# Altium footprint library P-Channel FET.PcbLib: 8 footprints
Each footprint in its own frame and in the unit in brackets; x right, y up, seen from the top. Pads: shape width x height; smd on the part's side, far side on the other; paste and mask are expansions set on the pad; w line width, h text height; cw(c..) or ccw(c..) is an arc to the next point about the centre after c.
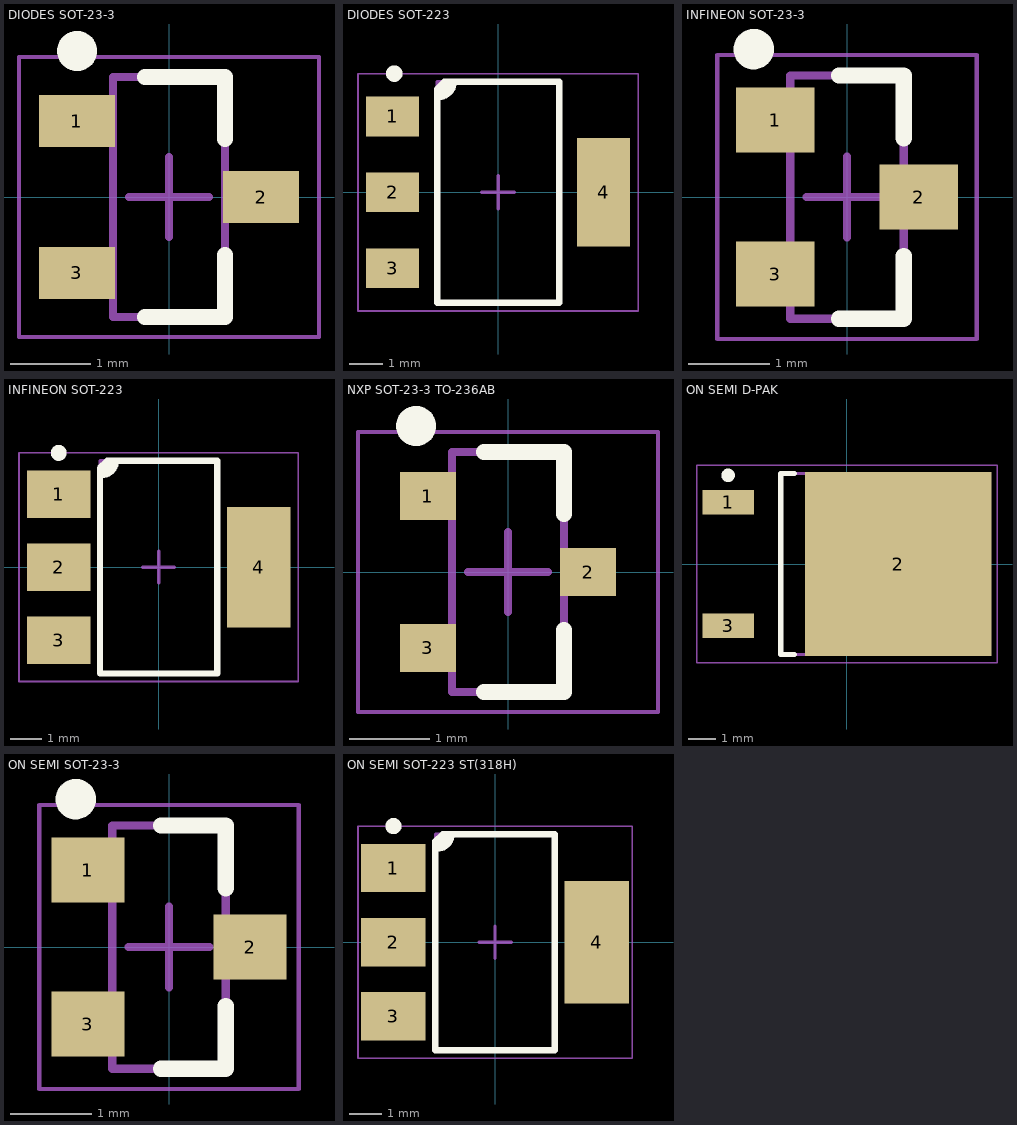
[diagram p0: the footprints below, top view; thin cyan lines are the x and y axes]

## DIODES SOT-23-3 [mm] "SOT23, 3-Leads, Body 2.90x2.40mm, Pitch 0.95mm, IPC Medium Density"
height 1.35
pads (3):
  rect 0.95x0.65 smd: 1(-1.15,0.95) 2(1.15,0) 3(-1.15,-0.95)
Top Overlay:
  circle w0.25: c-1.15,1.825 r0.125
  lines w0.2: -0.3,-1.5 0.7,-1.5 0.7,-0.725 ; -0.3,1.5 0.7,1.5 0.7,0.725
Mechanical 13:
  lines w0.1: -0.7,-1.5 -0.7,1.5 0.7,1.5 0.7,-1.5 -0.7,-1.5
Mechanical 15:
  lines w0.05: -1.875,-1.75 -1.875,1.75 1.875,1.75 1.875,-1.75 -1.875,-1.75
  lines w0.1: -0.5,0 0.5,0 ; 0,-0.5 0,0.5
3D body "sot-23-3.STEP": height 1.5, standoff 0, extent -1.41,-1.45 1.411,1.45

## DIODES SOT-223 [mm] "SOT223, 4-Leads, Body 6.50x7.00mm (avg), Pitch 2.30mm, IPC Medium Density"
height 1.8
pads (4):
  rect 1.6x1.2 smd: 1(-3.2,2.3) 2(-3.2,0) 3(-3.2,-2.3)
  rect 1.6x3.3 smd: 4(3.2,0)
Top Overlay:
  circle w0.25: c-3.15,3.6 r0.125
  region: -1.65,3.275 -1.35,3.35 -1.35,3.2 -1.65,2.9 -1.85,2.9
  lines w0.2: -1.85,2.9 -1.8,2.9 ccw(c-1.8,3.35) -1.35,3.35 ; -1.85,-3.35 1.85,-3.35 1.85,3.35 -1.625,3.35 -1.85,3.125 -1.85,-3.35
Mechanical 13:
  lines w0.1: -1.85,-3.35 -1.85,3.35 1.85,3.35 1.85,-3.35 -1.85,-3.35
Mechanical 15:
  lines w0.05: -4.25,-3.6 -4.25,3.6 4.25,3.6 4.25,-3.6 -4.25,-3.6
  lines w0.1: -0.5,0 0.5,0 ; 0,-0.5 0,0.5
3D body "SOT-223.STEP": height 1.8, standoff 0, extent -3.516,-3.25 3.5,3.25

## INFINEON SOT-23-3 [mm] "SOT23, 3-Leads, Body 2.90x2.40mm, Pitch 0.95mm, IPC Medium Density"
height 1.35
pads (3):
  rect 0.972x0.802 smd: 1(-0.885,0.95) 2(0.885,0) 3(-0.885,-0.95)
Top Overlay:
  circle w0.25: c-1.15,1.825 r0.125
  lines w0.2: -0.1,-1.5 0.7,-1.5 0.7,-0.725 ; -0.1,1.5 0.7,1.5 0.7,0.725
Mechanical 13:
  lines w0.1: -0.7,-1.5 0.7,-1.5 0.7,1.5 -0.7,1.5 -0.7,-1.5
Mechanical 15:
  lines w0.05: -1.6,-1.75 1.6,-1.75 1.6,1.75 -1.6,1.75 -1.6,-1.75
  lines w0.1: -0.5,0 0.5,0 ; 0,-0.5 0,0.5
3D body "sot-23-3-infineon.STEP": height 1, standoff 0, extent -1.16,-1.45 1.16,1.45

## INFINEON SOT-223 [mm] "SOT223, 4-Leads, Body 6.50x7.00mm (avg), Pitch 2.30mm, IPC Medium Density"
height 1.8
pads (4):
  rect 2x1.5 smd: 1(-3.15,2.3) 2(-3.15,0) 3(-3.15,-2.3)
  rect 2x3.8 smd: 4(3.15,0)
Top Overlay:
  circle w0.25: c-3.15,3.6 r0.125
  region: -1.65,3.275 -1.35,3.35 -1.35,3.2 -1.65,2.9 -1.85,2.9
  lines w0.2: -1.85,2.9 -1.8,2.9 ccw(c-1.8,3.35) -1.35,3.35 ; -1.85,-3.35 1.85,-3.35 1.85,3.35 -1.625,3.35 -1.85,3.125 -1.85,-3.35
Mechanical 13:
  lines w0.1: -1.85,-3.35 -1.85,3.35 1.85,3.35 1.85,-3.35 -1.85,-3.35
Mechanical 15:
  lines w0.05: -4.4,-3.6 -4.4,3.6 4.4,3.6 4.4,-3.6 -4.4,-3.6
  lines w0.1: -0.5,0 0.5,0 ; 0,-0.5 0,0.5
3D body "SOT-223.STEP": height 1.8, standoff 0, extent -3.516,-3.25 3.5,3.25

## NXP SOT-23-3 TO-236AB [mm] "SOT23, 3-Leads, Body 2.90x2.40mm, Pitch 0.95mm, IPC Medium Density"
height 1.35
pads (3):
  rect 0.7x0.6 smd: 1(-1,0.95) 2(1,0) 3(-1,-0.95)
Top Overlay:
  circle w0.25: c-1.15,1.825 r0.125
  lines w0.2: -0.3,-1.5 0.7,-1.5 0.7,-0.725 ; -0.3,1.5 0.7,1.5 0.7,0.725
Mechanical 13:
  lines w0.1: -0.7,-1.5 -0.7,1.5 0.7,1.5 0.7,-1.5 -0.7,-1.5
Mechanical 15:
  lines w0.05: -1.875,-1.75 -1.875,1.75 1.875,1.75 1.875,-1.75 -1.875,-1.75
  lines w0.1: -0.5,0 0.5,0 ; 0,-0.5 0,0.5
3D body "sot-23-3-nxp.STEP": height 1.5, standoff 0, extent -1.16,-1.45 1.16,1.45

## ON SEMI D-PAK [mm] "D-PAK, 3-Pads, Body 6.20x6.72mm (max), IPC Medium Density"
height 2.38
pads (3):
  rect 1.9x0.9 smd: 1(-4.4,2.28) 3(-4.4,-2.28)
  rect 6.9x6.8 smd: 2(1.9,0)
Top Overlay:
  circle w0.25: c-4.4,3.28 r0.125
  lines w0.2: -1.95,-3.35 -2.45,-3.35 -2.45,3.35 -1.95,3.35
Mechanical 13:
  lines w0.1: -2.45,-3.35 -2.45,3.35 3.75,3.35 3.75,-3.35 -2.45,-3.35
Mechanical 15:
  lines w0.05: -5.55,-3.65 -5.55,3.65 5.55,3.65 5.55,-3.65 -5.55,-3.65
  lines w0.1: -0.5,0 0.5,0 ; 0,-0.5 0,0.5
3D body "ON SEMI D-PAK.step": height 2.38, standoff 0, extent -4.465,-3.35 5.235,3.35

## ON SEMI SOT-23-3 [mm] "SOT23, 3-Leads, Body 2.90x2.40mm, Pitch 0.95mm, IPC Medium Density"
height 1.35
pads (3):
  rect 0.9x0.8 smd: 1(-1,0.95) 2(1,0) 3(-1,-0.95)
Top Overlay:
  circle w0.25: c-1.15,1.825 r0.125
  lines w0.2: -0.1,-1.5 0.7,-1.5 0.7,-0.725 ; -0.1,1.5 0.7,1.5 0.7,0.725
Mechanical 13:
  lines w0.1: -0.7,-1.5 -0.7,1.5 0.7,1.5 0.7,-1.5 -0.7,-1.5
Mechanical 15:
  lines w0.05: -1.6,-1.75 -1.6,1.75 1.6,1.75 1.6,-1.75 -1.6,-1.75
  lines w0.1: -0.5,0 0.5,0 ; 0,-0.5 0,0.5
3D body "sot-23-3-infineon.STEP": height 1, standoff 0, extent -1.16,-1.45 1.16,1.45

## ON SEMI SOT-223 ST(318H) [mm] "SOT223, 4-Leads, Body 6.50x7.00mm (avg), Pitch 2.30mm, IPC Medium Density"
height 1.8
pads (4):
  rect 2x1.5 smd: 1(-3.15,2.3) 2(-3.15,0) 3(-3.15,-2.3)
  rect 2x3.8 smd: 4(3.15,0)
Top Overlay:
  circle w0.25: c-3.15,3.6 r0.125
  region: -1.65,3.275 -1.35,3.35 -1.35,3.2 -1.65,2.9 -1.85,2.9
  lines w0.2: -1.85,2.9 -1.8,2.9 ccw(c-1.8,3.35) -1.35,3.35 ; -1.85,-3.35 1.85,-3.35 1.85,3.35 -1.625,3.35 -1.85,3.125 -1.85,-3.35
Mechanical 13:
  lines w0.1: -1.85,-3.35 -1.85,3.35 1.85,3.35 1.85,-3.35 -1.85,-3.35
Mechanical 15:
  lines w0.05: -4.25,-3.6 -4.25,3.6 4.25,3.6 4.25,-3.6 -4.25,-3.6
  lines w0.1: -0.5,0 0.5,0 ; 0,-0.5 0,0.5
3D body "SOT-223.STEP": height 1.8, standoff 0, extent -3.516,-3.25 3.5,3.25